# EAGLE library part 691328310016 (library Eagle_WR-TBL Pluggable Connector (rev21a))
WR-TBL Serie 3283 - 3.81 mm Double Level Horizontal Male PCB Header with Flanges & Nut Type KIND PROPERTIES Pitch 3.81 mm MATERIAL PROPERTIES Insulator Material PA66 Insulator Flammability Rating UL94 V-0 Contact Material Brass Contact Plating Tin GENERAL INFORMATION Operating Temperature -40 up to +105 °C Compliance RoHS ELECTRICAL PROPERTIES IR UL 10 A Working Voltage [UL] 300 V (AC) Withstanding Voltage [cULus] 1600 V (AC) Contact Resistance [cULus] 20 mΩ CERTIFICATION cULus Approval E315414 <https://www.we-online.com/catalog/media/o33281v209%20Family_WR-TBL_6913283100xx.jpg> Details see: https://www.we-online.com/catalog/en/TBL_3_81_3283_DOUBLE_LEVEL_HORIZONTAL_MALE_PCB_HEADER_W_FLANGES_AND_NUT_6913283100XX/ Updated by Ella Wu 2019-12-23 2019(C) Wurth Elektronik
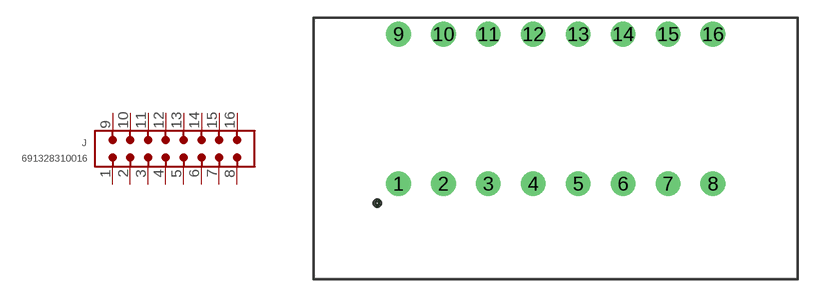
[diagram p68: symbol with the pads of 691328310016; footprint 691328310016]

Designator prefix J

## 691328310016 (DATASHEET-URL: https://www.we-online.com/catalog/datasheet/691328310016.pdf; IR-UL: 10A; MOUNT: THT; PART-NUMBER: 691328310016; PINS: 16; PITCH: 3.81mm; TYPE: Double Level Horizontal; VALUE: 691328310016; WORKING-VOLTAGE-UL: 300V (AC))  [691328310016]
1  1  pas
2  2  pas
3  3  pas
4  4  pas
5  5  pas
6  6  pas
7  7  pas
8  8  pas
9  9  pas
10  10  pas
11  11  pas
12  12  pas
13  13  pas
14  14  pas
15  15  pas
16  16  pas

## Footprint 691328310016 (pad centres in mm)
WR-TBL Serie 3283 - 3.81 mm Double Level Horizontal Male PCB Header with Flanges & Nut Type Max Height = 22.7mm , Pitch 3.81mm , 16pins
drill 1.4: 1 -13.335,-6.35; 2 -9.525,-6.35; 3 -5.715,-6.35; 4 -1.905,-6.35; 5 1.905,-6.35; 6 5.715,-6.35; 7 9.525,-6.35; 8 13.335,-6.35; 9 -13.335,6.35; 10 -9.525,6.35; 11 -5.715,6.35; 12 -1.905,6.35; 13 1.905,6.35; 14 5.715,6.35; 15 9.525,6.35; 16 13.335,6.35